# EAGLE library part HEADER-1X6 (library 4ms-main-parts)
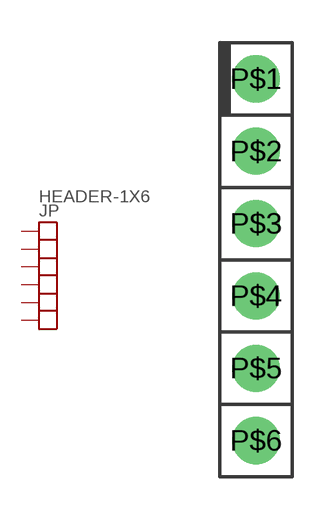
[diagram p3: symbol with the pads of HEADER-1X6-TH; footprint HEADER-1X6-TH]

Designator prefix JP

## HEADER-1X6  [HEADER-1X6-TH]
P$1  P$1
P$2  P$2
P$3  P$3
P$4  P$4
P$5  P$5
P$6  P$6

## Footprint HEADER-1X6-TH (pad centres in mm)
drill 0.9 pad 1.651: P$1 1.27,6.35; P$2 1.27,3.81; P$3 1.27,1.27; P$4 1.27,-1.27
drill 0.889 pad 1.651: P$5 1.27,-3.81; P$6 1.27,-6.35